# Altium schematic symbol library ESD2CAN24DBZRQ1.SchLib: 1 symbol
Pins are listed as number, name and electrical type; pins without a type are passive.

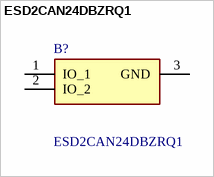
[diagram p0: symbol ESD2CAN24DBZRQ1]

## ESD2CAN24DBZRQ1
designator B?
ESD Suppressors / TVS Diodes Automotive, dual, 3-pF, +/-24-V, +/-30-kV ESD protection diode for CAN and in-vehicle networks 3-SOT-23 -55 to 150; Manufacturer_Name: Texas Instruments; Geometry.Height: 1.12mm; Manufacturer_Part_Number: ESD2CAN24DBZRQ1; Mouser Part Number: 595-ESD2CAN24DBZRQ1; Mouser Price/Stock: https://www.mouser.co.uk/ProductDetail/Texas-Instruments/ESD2CAN24DBZRQ1?qs=Y0Uzf4wQF3knJz9mU6BNuw%3D%3D; Arrow Part Number: ESD2CAN24DBZRQ1; Arrow Price/Stock: https://www.arrow.com/en/products/esd2can24dbzrq1/texas-instruments?utm_currency=USD&region=nac; Datasheet Link: https://www.ti.com/lit/ds/symlink/esd2can24-q1.pdf?ts=1669637432096&ref_url=https%253A%252F%252Fwww.ti.com%252Fproduct%252FESD2CAN24-Q1
footprint SOT95P237X112-3N
pins: 1 IO_1, 2 IO_2, 3 GND